# Altium schematic symbol library LimeMicroAltiumLib.SchLib: 659 symbols (part 16 of 22)
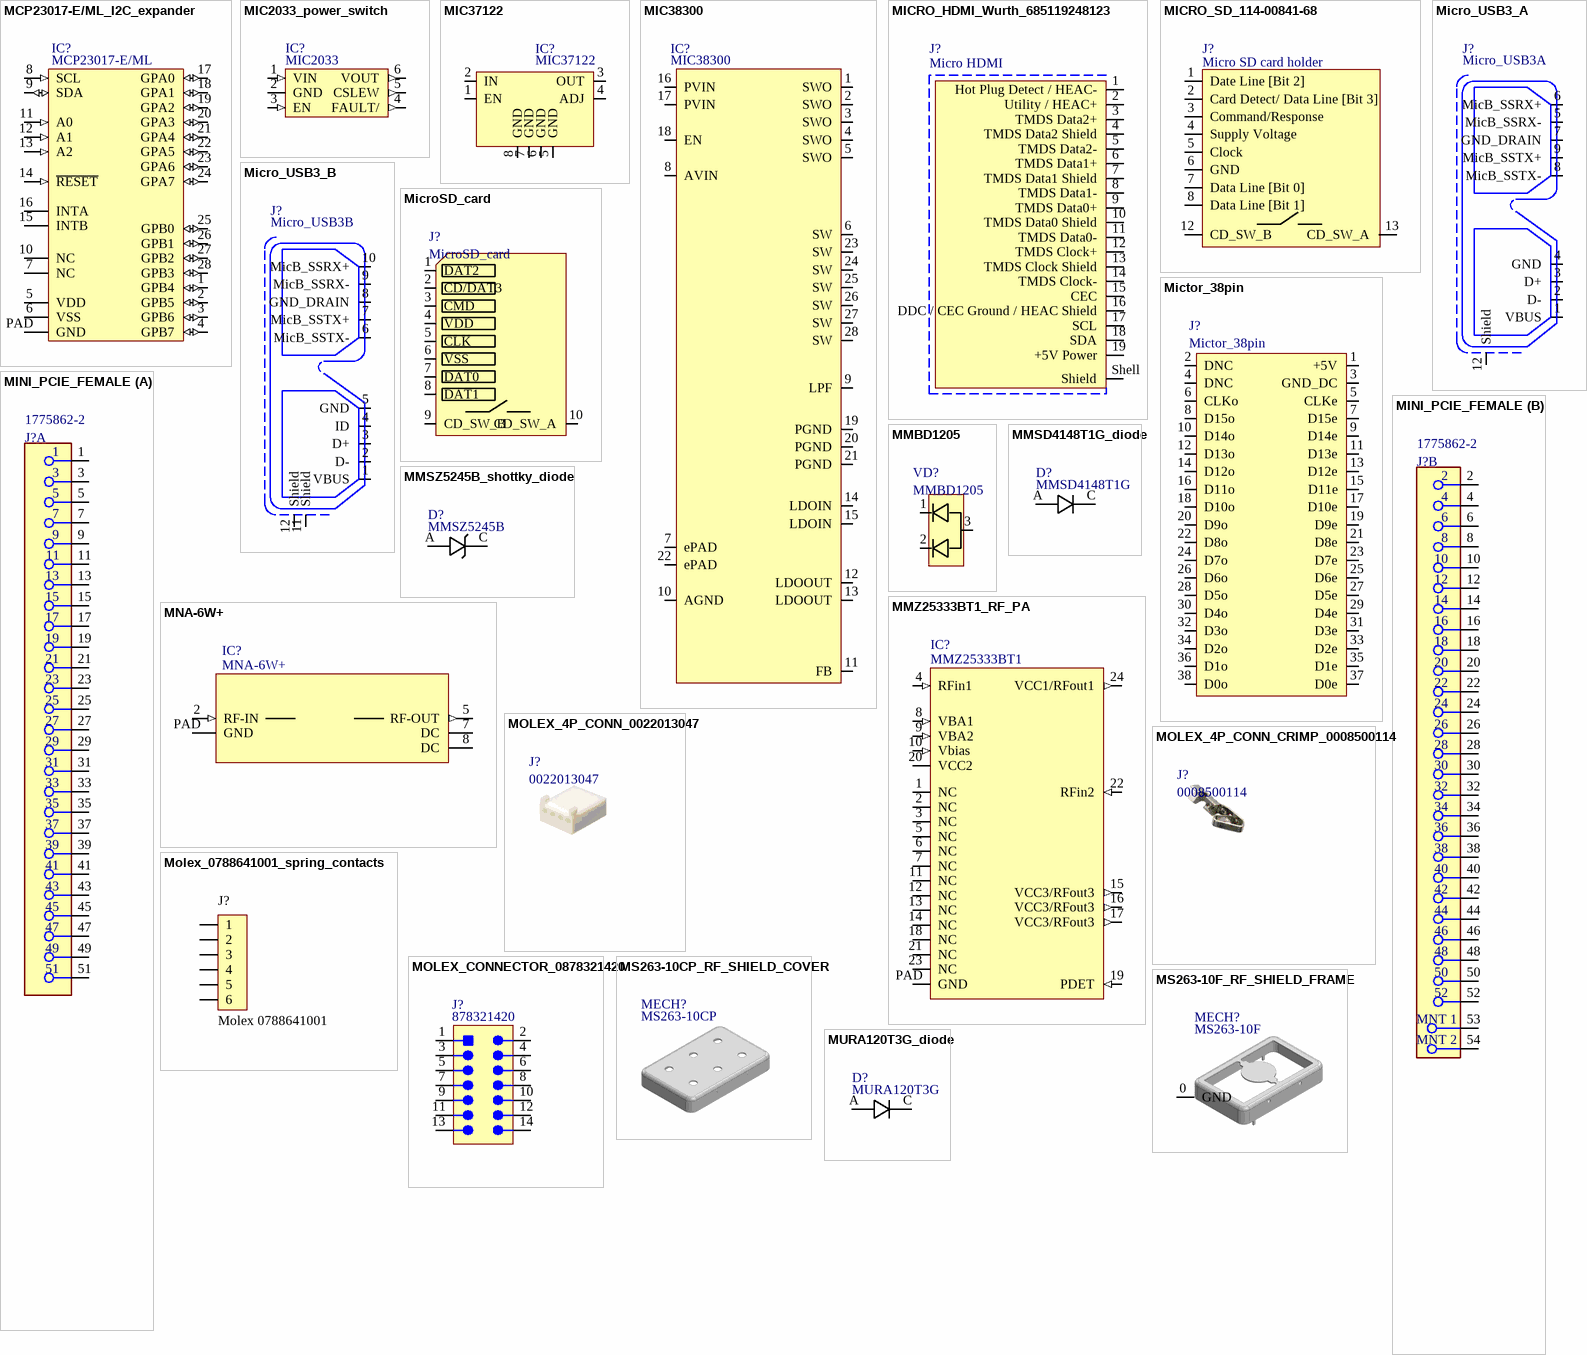
[diagram p93: symbols MCP23017-E/ML_I2C_expander to MURA120T3G_diode]

## MCP23017-E/ML_I2C_expander
designator IC?, comment MCP23017-E/ML
Part Description: I/O Expander 16 I²C 1.7 MHz 28-QFN (6x6); Manufacturer: Microchip; ComponentLink1URL: https://datasheet.ciiva.com/1496/12179-1496011.pdf?src-supplier=Element14; ComponentLink1Description: https://datasheet.ciiva.com/1496/12179-1496011.pdf?src-supplier=Element14; ComponentLink2URL: https://datasheet.ciiva.com/1780/21952b-1780121.pdf?src-supplier=Digi-Key; ComponentLink2Description: https://datasheet.ciiva.com/1780/21952b-1780121.pdf?src-supplier=Digi-Key; ComponentLink3URL: https://datasheet.ciiva.com/3149/21952b-3149158.pdf?src-supplier=Avnet; ComponentLink3Description: https://datasheet.ciiva.com/3149/21952b-3149158.pdf?src-supplier=Avnet; ComponentLink4URL: https://datasheet.ciiva.com/16222/filehandler-aspxddocname-en023709-16222331.pdf?src-supplier=Future+Electronics; ComponentLink4Description: https://datasheet.ciiva.com/16222/filehandler-aspxddocname-en023709-16222331.pdf?src-supplier=Future+Electronics; Supplier 1: Digi-Key; Supplier Part Number 1: MCP23017-E/ML-ND; Manufacturer Part Number 1: MCP23017-E/ML; Stock 1: 3965; Pricing 1: 1=1,9, 25=1,59, 100=1,44 (USD); RoHS: Yes
footprint MCP23017-E/ML_QFN28
pins: 1 GPB4 (io), 2 GPB5 (io), 3 GPB6 (io), 4 GPB7 (io), 5 VDD (power), 6 VSS (power), 7 NC, 8 SCL (in), 9 SDA (io), 10 NC, 11 A0 (in), 12 A1 (in), 13 A2 (in), 14 ~{RESET} (in), 15 INTB (oc), 16 INTA (oc), 17 GPA0 (io), 18 GPA1 (io), 19 GPA2 (io), 20 GPA3 (io), 21 GPA4 (io), 22 GPA5 (io), 23 GPA6 (io), 24 GPA7 (io), 25 GPB0 (io), 26 GPB1 (io), 27 GPB2 (io), 28 GPB3 (io), PAD GND

## MIC2033_power_switch
designator IC?, comment MIC2033
Manufacturer: Microchip; Manufacturer Part Number 1: MIC2033-05AYM6-TR; Part Description: Power Switch ICs - Power Distribution 500mA High-Side, Power Distribution Switch; Number of Outputs: 1; Interface: On/Off; Max Output Current: 500mA; Fault Protection: Over Temperature; Output Configuration: High Side; Supplier 1: Digi-Key; Supplier Part Number 1: 576-4143-1-ND; Stock 1: 1966; Pricing 1: 1=0,80000, 25=0,65720, 100=0,61500 (USD); RoHS: Yes; Mount: Surface Mount; Case/Package: SOT-23-6; Number of Pins: 6; Min Operating Temperature: -40°C; Max Operating Temperature: 125°C; Packaging: Tape and Reel; Package Quantity: 3000; Series: -; Number of Switches: 1; RoHS Compliant: Yes; ComponentLink1URL: http://www.mouser.com/ds/2/268/mic2033-b-1076865.pdf?src-supplier=Mouser; ComponentLink1Description: http://www.mouser.com/ds/2/268/mic2033-b-1076865.pdf?src-supplier=Mouser; ComponentLink2URL: http://components.arrow.com/part/dataview/56727820S413982N1374?src-supplier=Arrow+Electronics; ComponentLink2Description: http://components.arrow.com/part/dataview/56727820S413982N1374?src-supplier=Arrow+Electronics; ComponentLink3URL: http://www.microchip.com/mymicrochip/filehandler.aspx?ddocname=en579457&src-supplier=Digi-Key; ComponentLink3Description: http://www.microchip.com/mymicrochip/filehandler.aspx?ddocname=en579457&src-supplier=Digi-Key
footprint SOT23-6
pins: 1 VIN (in), 2 GND, 3 EN (in), 4 FAULT/ (out), 5 CSLEW (out), 6 VOUT (out)

## MIC37122
designator IC?
Voltage - Input: 2.375 V ~ 5.5 V; Supplier 1: Digi-Key; Supplier: Digi-Key; Package / Case: 8-SOIC (0.154", 3.90mm Width); Supplier Part Number: 576-4334-2-ND
footprint MIC37122YM TR_SO8 (SOIC, 8-Leads, Body 4,90x3,90mm, Pitch 1,27mm, IPC Medium Density)
pins: 1 EN, 2 IN, 3 OUT, 4 ADJ, 5 GND, 6 GND, 7 GND, 8 GND

## MIC38300
designator IC?
Manufacturer: Microchip Technology; Manufacturer Part Number 1: MIC38300HYHL-TR; Current - Output (Max): 3A; Voltage - Input (Min): 3V; Voltage - Input (Max): 5.5V; Voltage - Output 1: 1 ~ 5 V; Number of Outputs: 1; Supplier 1: Digi-Key; Features: OCP, OVP, UVLO; Voltage - Output 2: -; Applications: ITE (Commercial); Package / Case: 28-PowerVQFN Variant, 28-MLF®; Mounting Type: Surface Mount; RoHS: RoHS Compliant; Size / Dimension: 0.236" L x 0.158" W (6.00mm x 4.00mm); Voltage - Isolation: -; Power (Watts) - Manufacture Series: -; Type: Non-Isolated PoL Module; Efficiency: -; Voltage - Output 3: -; Packaging: Cut Tape (CT); Operating Temperature: -40°C ~ 125°C; Power (Watts) - Max: -; Category: Power Supplies - Board Mount; Supplier Part Number 1: 576-2960-1-ND
pins: 1 SWO, 2 SWO, 3 SWO, 4 SWO, 5 SWO, 6 SW, 7 ePAD, 8 AVIN, 9 LPF, 10 AGND, 11 FB, 12 LDOOUT, 13 LDOOUT, 14 LDOIN, 15 LDOIN, 16 PVIN, 17 PVIN, 18 EN, 19 PGND, 20 PGND, 21 PGND, 22 ePAD, 23 SW, 24 SW, 25 SW, 26 SW, 27 SW, 28 SW

## MICRO_HDMI_Wurth_685119248123
designator J?, comment Micro HDMI
Also compatible with Molex 0467651301 and Amphenol 10118242-001RLF; Manufacturer: Wurth Electronics; Manufacturer Part Number 1: 685119248123; Part Description: HDMI - Micro - Receptacle Connector 19 Position Surface Mount, Right Angle; Through Hole; Body Material: Brass; Number of Contacts: 19; Gender: Receptacle; Supplier 1: RSComponents; Supplier Part Number 1: 1621823; Stock 1: 1; Pricing 1: 1000=1,80500, 5000=1,73500, 10000=1,68900, 15000=1,64400, 20000=1,60100 (USD); RoHS: Yes; Mount: Surface Mount,Horizontal; Contact Plating: Gold; Package Quantity: 1000; Packaging: Tape and Reel; Connector Type: HDMI; Features: Shielded; REACH SVHC: Unknown; RoHS Compliant: Yes; ComponentLink1URL: https://datasheet.ciiva.com/29660/685119248123-29660258.pdf?src-supplier=Digi-Key; ComponentLink1Description: https://datasheet.ciiva.com/29660/685119248123-29660258.pdf?src-supplier=Digi-Key
footprint MICRO_HDMI_Wurth_685119248123 (Footprint not found)
pins: 1 Hot Plug Detect / HEAC-, 2 Utility / HEAC+, 3 TMDS Data2+, 4 TMDS Data2 Shield, 5 TMDS Data2-, 6 TMDS Data1+, 7 TMDS Data1 Shield, 8 TMDS Data1-, 9 TMDS Data0+, 10 TMDS Data0 Shield, 11 TMDS Data0-, 12 TMDS Clock+, 13 TMDS Clock Shield, 14 TMDS Clock-, 15 CEC, 16 DDC / CEC Ground / HEAC Shield, 17 SCL, 18 SDA, 19 +5V Power, Shell Shield

## MICRO_SD_114-00841-68
designator J?, comment Micro SD card holder
Manufacturer: Amphenol Commercial Products; Manufacturer Part Number: 114-00841-68; Part Description: 10 (8 + 2) Position Card Connector Secure Digital - microSD™ Surface Mount, Right Angle Gold; Card Type: Secure Digital - microSD™; Number of Positions: 10 (8 + 2); Connector Type: Connector; Insertion, Removal Method: Push In, Pull Out; Supplier 1: Digi-Key; RoHS: RoHS Compliant; Category: Connectors, Interconnects; Stock 1: 5866; Pricing 1: 1=1.5, 10=1.358, 25=1.2752, 50=1.2196, 100=1.1642, 250=1.05336, 500=0.9702 (USD); Packaging: Cut Tape (CT); Part Status: Active; Ejector Side: -; Mounting Type: Surface Mount, Right Angle; Features: Switch; Height Above Board: 0.061" (1.55mm); Mounting Feature: Normal, Standard - Top; Contact Finish: Gold; Contact Finish Thickness: 15.0µin (0.38µm); ComponentLink1URL: https://www.amphenolcanada.com/ProductSearch/drawings/AC/1140084168.pdf; ComponentLink1Description: https://www.amphenolcanada.com/ProductSearch/drawings/AC/1140084168.pdf; Supplier Part Number 1: 114-00841-68-1-ND
footprint MICRO_SD_CARD_114-00841-68
pins: 1 Date Line [Bit 2], 2 Card Detect/ Data Line [Bit 3], 3 Command/Response, 4 Supply Voltage, 5 Clock, 6 GND, 7 Data Line [Bit 0], 8 Data Line [Bit 1], 12 CD_SW_B, 13 CD_SW_A

## Micro_USB3_A
designator J?, comment Micro_USB3A
footprint microUSB3A_SM
pins: 1 VBUS, 2 D-, 3 D+, 4 GND, 5 MicB_SSRX-, 6 MicB_SSRX+, 7 GND_DRAIN, 8 MicB_SSTX-, 9 MicB_SSTX+, 12 Shield

## Micro_USB3_B
designator J?, comment Micro_USB3B
Specifications: USB 3.0, Super Speed; Connector Type: USB - micro B; Supplier 1: Digi-Key; Mounting Type: Surface Mount, Right Angle, Horizontal; Category: Connectors, Interconnects; Supplier: Digi-Key; Supplier Part Number: GSB343K33HRCT-ND
pins: 1 VBUS, 2 D-, 3 D+, 4 ID, 5 GND, 6 MicB_SSTX-, 7 MicB_SSTX+, 8 GND_DRAIN, 9 MicB_SSRX-, 10 MicB_SSRX+, 11 Shield, 12 Shield

## MicroSD_card
designator J?
Supplier 1: Digi-Key; Supplier Part Number 1: HR1964CT-ND
pins: 1 DAT2, 2 CD/DAT3, 3 CMD, 4 VDD, 5 CLK, 6 VSS, 7 DAT0, 8 DAT1, 9 CD_SW_B, 10 CD_SW_A

## Mictor_38pin
designator J?
Manufacturer: TE CONNECTIVITY / AMP; Manufacturer Part Number: 2-5767004-2; Contact Termination Type: Surface Mount; Pitch Spacing: 0.64; No. of Contacts: 38; Gender: Receptacle; No. of Rows: 2; Row Pitch: 7.06; Supplier 1: Newark; Series: MICTOR; Contact Plating: Gold; Supplier Part Number 1: 24K3655
footprint AMP_MICTOR38
pins: 1 +5V, 2 DNC, 3 GND_DC, 4 DNC, 5 CLKe, 6 CLKo, 7 D15e, 8 D15o, 9 D14e, 10 D14o, 11 D13e, 12 D13o, 13 D12e, 14 D12o, 15 D11e, 16 D11o, 17 D10e, 18 D10o, 19 D9e, 20 D9o, 21 D8e, 22 D8o, 23 D7e, 24 D7o, 25 D6e, 26 D6o, 27 D5e, 28 D5o, 29 D4e, 30 D4o, 31 D3e, 32 D3o, 33 D2e, 34 D2o, 35 D1e, 36 D1o, 37 D0e, 38 D0o

## MINI_PCIE_FEMALE
designator J?, comment 1775862-2
CONN PCI EXP MINI FEMALE 52POS; Part Description: 52 Position Female Connector PCI Express Mini Card Gold 0.031" (0.80mm) Black; Manufacturer: TE Connectivity AMP; Manufacturer Part Number 1: 2041262-1; ComponentLink1URL: https://www.mouser.com/ds/2/418/NG_DS_8-1773459-7_EXPRESS_MINI_CARD_QRG_0816-907003.pdf?src-supplier=Mouser; ComponentLink1Description: https://www.mouser.com/ds/2/418/NG_DS_8-1773459-7_EXPRESS_MINI_CARD_QRG_0816-907003.pdf?src-supplier=Mouser; ComponentLink2URL: http://www.farnell.com/datasheets/2645681.pdf?src-supplier=Newark; ComponentLink2Description: http://www.farnell.com/datasheets/2645681.pdf?src-supplier=Newark; ComponentLink3URL: https://www.te.com/commerce/DocumentDelivery/DDEController?Action=srchrtrv&DocNm=108-99102&DocType=SS&DocLang=EN&src-supplier=Digi-Key; ComponentLink3Description: https://www.te.com/commerce/DocumentDelivery/DDEController?Action=srchrtrv&DocNm=108-99102&DocType=SS&DocLang=EN&src-supplier=Digi-Key; ComponentLink4URL: https://www.te.com/commerce/DocumentDelivery/DDEController?Action=srchrtrv&amp;DocNm=108-99102&amp;DocType=SS&amp;DocLang=EN&src-supplier=Digi-Key; ComponentLink4Description: https://www.te.com/commerce/DocumentDelivery/DDEController?Action=srchrtrv&amp;DocNm=108-99102&amp;DocType=SS&amp;DocLang=EN&src-supplier=Digi-Key; ComponentLink5URL: http://www.te.com/commerce/DocumentDelivery/DDEController?Action=showdoc&DocId=Customer+Drawing%7F2041262%7FC%7Fpdf%7FEnglish%7FENG_CD_2041262_C.pdf&src-supplier=Avnet; ComponentLink5Description: http://www.te.com/commerce/DocumentDelivery/DDEController?Action=showdoc&DocId=Customer+Drawing%7F2041262%7FC%7Fpdf%7FEnglish%7FENG_CD_2041262_C.pdf&src-supplier=Avnet; ComponentLink6URL: http://www.te.com/commerce/DocumentDelivery/DDEController?Action=srchrtrv&DocNm=2041262&DocType=Customer+Drawing&DocLang=English&src-supplier=Digi-Key; ComponentLink6Description: http://www.te.com/commerce/DocumentDelivery/DDEController?Action=srchrtrv&DocNm=2041262&DocType=Customer+Drawing&DocLang=English&src-supplier=Digi-Key; Supplier 1: Digi-Key; Supplier Part Number 1: A125147CT-ND; Stock 1: 45333; Pricing 1: 1=1,25000, 10=1,05300, 25=1,00960, 50=0,98820, 100=0,94520 (USD); RoHS: Yes
footprint MiniPCIe_connector
part A pins: 1, 3, 5, 7, 9, 11, 13, 15, 17, 19, 21, 23, 25, 27, 29, 31, 33, 35, 37, 39, 41, 43, 45, 47, 49, 51
part B pins: 2, 4, 6, 8, 10, 12, 14, 16, 18, 20, 22, 24, 26, 28, 30, 32, 34, 36, 38, 40, 42, 44, 46, 48, 50, 52, 53 MNT 1, 54 MNT 2

## MMBD1205
designator VD?
Reverse Recovery Time (trr): 4ns; Diode Configuration: 1 Pair Common Anode; Voltage - DC Reverse (Vr) (Max): 100V; Current - Average Rectified (Io) (per Diode): 200mA; Current - Reverse Leakage @ Vr: 50nA @ 50V; Voltage - Forward (Vf) (Max) @ If: 1V @ 200mA; Supplier 1: Digi-Key; Category: Discrete Semiconductor Products; Supplier Device Package: SOT-23-3 (TO-236); Package / Case: TO-236-3, SC-59, SOT-23-3; Supplier Part Number 1: MMBD1205CT-ND
footprint SOT23-3_v2 (SOT23, 3 pin)
pins: 1, 2, 3

## MMSD4148T1G_diode
designator D?, comment MMSD4148T1G
Part Description: Diode Standard 100V 200mA (DC) Surface Mount SOD-123; Manufacturer: ON Semiconductor; Manufacturer Part Number 1: MMSD4148-T1G; Forward Current: 200mA; Reverse Recovery Time: 4ns; Max Repetitive Reverse Voltage (Vrrm): 100V; Peak Non-Repetitive Surge Current: 2A; Element Configuration: Single; Forward Voltage: 1V; Peak Reverse Current: 5uA; Power Dissipation: 425mW; Polarity: Standard; Current Rating: 200A; Capacitance: 4pF; ComponentLink1URL: http://www.mouser.com/ds/2/427/mmsz5225-102133.pdf; ComponentLink1Description: http://www.mouser.com/ds/2/427/mmsz5225-102133.pdf; Supplier 1: Digi-Key; RoHS: Yes; Stock 1: 767963; Pricing 1: 1 = 0,21000, 10 = 0,19200, 100 = 0,10450, 500 = 0,06432, 1000 = 0,04386 (USD); Case/Package: SOD-123-2; Number of Pins: 2; Contact Plating: Matte,Tin; Min Operating Temperature: -55°C; Max Operating Temperature: 150°C; Recovery Time: 4ns; Max Surge Current: 2A; Package Quantity: 1; Packaging: Tape and Reel; Average Rectified Current: 200mA; Max Reverse Voltage (DC): 100V; Max Reverse Leakage Current: 5uA; Max Forward Surge Current (Ifsm): 2A; Voltage Rating (DC): 100V; Output Current: 200mA; Length: 2.69mm; Height: 1.12mm; Width: 1.6mm; Radiation Hardening: No; Lead Free: Lead Free; Halogen Free: Halogen Free; REACH SVHC: No SVHC; ComponentLink2URL: http://www.onsemi.com/pub/Collateral/MMSD4148T1-D.PDF; ComponentLink2Description: http://www.onsemi.com/pub/Collateral/MMSD4148T1-D.PDF; ComponentLink3URL: http://www.farnell.com/datasheets/1707241.pdf; ComponentLink3Description: http://www.farnell.com/datasheets/1707241.pdf; ComponentLink4URL: https://www.verical.com/server-webapp/html/getDatasheet?partID=78734; ComponentLink4Description: https://www.verical.com/server-webapp/html/getDatasheet?partID=78734; Supplier Part Number 1: MMSD4148T1GOSCT-ND
footprint MMSD4148T1G_diode_SOD123
pins: A, C

## MMSZ5245B_shottky_diode
designator D?, comment MMSZ5245B
Manufacturer: Vishay Semiconductors; Manufacturer Part Number 1: MMSZ5245B-E3-18; Part Description: Zener Diode 15V 500mW ±5% Surface Mount SOD-123; Zener Voltage: 15V; Max Power Dissipation: 500mW; Impedance: 16R; Voltage Tolerance: 5%; Peak Reverse Current: 100nA; Element Configuration: Single; Supplier 1: Digi-Key; RoHS: Yes; Stock 1: 29874; Pricing 1: 1 = 0,28000, 10 = 0,23300, 25 = 0,19480, 100 = 0,12330, 250 = 0,09516, 500 = 0,08112, 1000 = 0,05516, 2500 = 0,04975, 5000 = 0,04326 (USD); Mount: Surface Mount; Case/Package: SOD-123-2; Weight: 0.000363oz; Min Operating Temperature: -55°C; Max Operating Temperature: 150°C; Packaging: Tape and Reel; Package Quantity: 10000; Tolerance: 5%; ComponentLink1URL: http://www.mouser.com/ds/2/427/mmsz5225-102133.pdf; ComponentLink1Description: http://www.mouser.com/ds/2/427/mmsz5225-102133.pdf; Supplier Part Number 1: MMSZ5245B-E3-18GICT-ND
footprint MMSZ5245B_shottky_diode_SOD123
pins: A, C

## MMZ25333BT1_RF_PA
designator IC?, comment MMZ25333BT1
Part Description: RF Amplifier IC Cellular 1.5GHz ~ 2.7GHz 24-QFN (4x4); Manufacturer: NXP Freescale; Frequency: 2.7GHz; P1dB: 32dBm; Gain: 43dB; Operating Supply Current: 265mA; Test Frequency: 2.6GHz; Supplier 1: Digi-Key; Supplier Part Number 1: MMZ25333BT1CT-ND; Manufacturer Part Number 1: MMZ25333BT1; Stock 1: 298; Pricing 1: 1=10,02000 (USD); RoHS: Yes; Case/Package: QFN; Packaging: Tape and Reel; RoHS Compliant: Yes; ComponentLink1URL: http://www.mouser.com/ds/2/302/MMZ25333B-783850.pdf?src-supplier=Mouser; ComponentLink1Description: http://www.mouser.com/ds/2/302/MMZ25333B-783850.pdf?src-supplier=Mouser
footprint MMZ25333BT1_RF_PA_24QFN
pins: 1 NC, 2 NC, 3 NC, 4 RFin1 (in), 5 NC, 6 NC, 7 NC, 8 VBA1 (in), 9 VBA2 (in), 10 Vbias (in), 11 NC, 12 NC, 13 NC, 14 NC, 15 VCC3/RFout3 (out), 16 VCC3/RFout3 (out), 17 VCC3/RFout3 (out), 18 NC, 19 PDET (in), 20 VCC2 (power), 21 NC, 22 RFin2 (in), 23 NC, 24 VCC1/RFout1 (out), PAD GND

## MNA-6W+
designator IC?
Monolithic Amplifier 50Ω 0.5 to 5.5 GHz; Manufacturer: Mini-Circuits; Supplier Part Number 1: MNA-6W+; Supplier 1: Mini-Circuits; Part Description: Monolithic Amplifier 50Ω 0.5 to 5.5 GHz; Manufacturer Part Number 1: MNA-6W+
footprint MNA-6W+_DQ849 (Quad Flat No Lead, Plastic; 16 Terminals; Body 3 x 3 mm; Pitch 0.5 mm)
pins: 1 N/C hidden, 2 RF-IN (in), 3 N/C hidden, 4 N/C hidden, 5 RF-OUT (out), 6 N/C hidden, 7 DC (power), 8 DC (power), PAD GND

## MOLEX_4P_CONN_0022013047
designator J?, comment 0022013047  (mechanical)
Manufacturer: Molex; Part Description: 4 Position Rectangular Housing Connector Receptacle White 0.100" (2.54mm); Gender: Female; Connector Type: Socket; Number of Positions: 4; Voltage Rating: 250V; Max Current Rating: 4A; Pitch: 2.54mm; Approvals: UL; Glow Wire Compliant: Non-compliant; Supplier 1: Digi-Key; Manufacturer Part Number 1: 22-01-3047; Stock 1: 63562; Pricing 1: 1=0,20000, 10=0,18500, 25=0,15760, 50=0,13780, 100=0,12790, 250=0,11316, 500=0,10824, 1000=0,08856, 2500=0,08118 (USD); RoHS: Yes; Mount: Cable; Contact Material: Bronze; Color: White; Housing Color: White; Housing Material: Nylon; Min Operating Temperature: 0°C; Max Operating Temperature: 75°C; Package Quantity: 5000; Packaging: Bulk; Termination: Crimp; Orientation: Straight; Number of Rows: 1; Number of Contacts: 4; Number of Circuits: 4; Length: 10.72mm; Height: 6.62mm; Depth: 12.7mm; Width: 6.62mm; Radiation Hardening: No; Lead Free: Lead Free; REACH SVHC: Unknown; Halogen Free: Low Halogen; Flammability Rating: UL94 V-0; ComponentLink1URL: https://datasheet.ciiva.com/11740/0900766b812c7f18-11740520.pdf?src-supplier=RSComponents; ComponentLink1Description: https://datasheet.ciiva.com/11740/0900766b812c7f18-11740520.pdf?src-supplier=RSComponents; ComponentLink2URL: https://datasheet.ciiva.com/19472/1965550-19472976.pdf?src-supplier=Jameco; ComponentLink2Description: https://datasheet.ciiva.com/19472/1965550-19472976.pdf?src-supplier=Jameco; ComponentLink3URL: https://datasheet.ciiva.com/19454/234819-19454258.pdf?src-supplier=Jameco; ComponentLink3Description: https://datasheet.ciiva.com/19454/234819-19454258.pdf?src-supplier=Jameco; ComponentLink4URL: https://datasheet.ciiva.com/30154/0022013047-crimp-housings-30154787.pdf?src-supplier=Onlinecomponents.com; ComponentLink4Description: https://datasheet.ciiva.com/30154/0022013047-crimp-housings-30154787.pdf?src-supplier=Onlinecomponents.com; ComponentLink5URL: https://datasheet.ciiva.com/15217/getdatasheetpartid-175308-15217513.pdf?src-supplier=Verical; ComponentLink5Description: https://datasheet.ciiva.com/15217/getdatasheetpartid-175308-15217513.pdf?src-supplier=Verical; ComponentLink6URL: https://datasheet.ciiva.com/5153/0022013047-crimp-housings-158509-5153519.pdf?src-supplier=Mouser; ComponentLink6Description: https://datasheet.ciiva.com/5153/0022013047-crimp-housings-158509-5153519.pdf?src-supplier=Mouser; ComponentLink7URL: https://datasheet.ciiva.com/16660/0022013047-crimp-housings-16660631.pdf?src-supplier=Avnet+Europe; ComponentLink7Description: https://datasheet.ciiva.com/16660/0022013047-crimp-housings-16660631.pdf?src-supplier=Avnet+Europe; ComponentLink8URL: https://datasheet.ciiva.com/16744/0022013047-crimp-housings-16744236.pdf?src-supplier=Avnet+Europe; ComponentLink8Description: https://datasheet.ciiva.com/16744/0022013047-crimp-housings-16744236.pdf?src-supplier=Avnet+Europe; ComponentLink9URL: https://datasheet.ciiva.com/16468/0022013047-crimp-housings-16468669.pdf?src-supplier=Avnet+Asia; ComponentLink9Description: https://datasheet.ciiva.com/16468/0022013047-crimp-housings-16468669.pdf?src-supplier=Avnet+Asia; Supplier Part Number 1: WM2002-ND

## MOLEX_4P_CONN_CRIMP_0008500114
designator J?, comment 0008500114  (mechanical)
Part Description: Non-Gendered Contact Tin 22-30 AWG Crimp; Manufacturer: Molex; Current Rating: 3A; Voltage Rating: 250V; Connector Type: Socket; Gender: Female; Max Current Rating: 9A; Contact Resistance: 20mR; Number of Contacts: 1; Shielding: Unshielded; Wire Gauge (Max): 22AWG; Wire Gauge (Min): 30AWG; ComponentLink1URL: https://datasheet.ciiva.com/11740/0900766b812c7f18-11740520.pdf?src-supplier=RSComponents; ComponentLink1Description: https://datasheet.ciiva.com/11740/0900766b812c7f18-11740520.pdf?src-supplier=RSComponents; ComponentLink2URL: https://datasheet.ciiva.com/19472/1965550-19472976.pdf?src-supplier=Jameco; ComponentLink2Description: https://datasheet.ciiva.com/19472/1965550-19472976.pdf?src-supplier=Jameco; ComponentLink3URL: https://datasheet.ciiva.com/19454/234819-19454258.pdf?src-supplier=Jameco; ComponentLink3Description: https://datasheet.ciiva.com/19454/234819-19454258.pdf?src-supplier=Jameco; ComponentLink4URL: https://datasheet.ciiva.com/30154/0022013047-crimp-housings-30154787.pdf?src-supplier=Onlinecomponents.com; ComponentLink4Description: https://datasheet.ciiva.com/30154/0022013047-crimp-housings-30154787.pdf?src-supplier=Onlinecomponents.com; ComponentLink5URL: https://datasheet.ciiva.com/15217/getdatasheetpartid-175308-15217513.pdf?src-supplier=Verical; ComponentLink5Description: https://datasheet.ciiva.com/15217/getdatasheetpartid-175308-15217513.pdf?src-supplier=Verical; ComponentLink6URL: https://datasheet.ciiva.com/5153/0022013047-crimp-housings-158509-5153519.pdf?src-supplier=Mouser; ComponentLink6Description: https://datasheet.ciiva.com/5153/0022013047-crimp-housings-158509-5153519.pdf?src-supplier=Mouser; ComponentLink7URL: https://datasheet.ciiva.com/16660/0022013047-crimp-housings-16660631.pdf?src-supplier=Avnet+Europe; ComponentLink7Description: https://datasheet.ciiva.com/16660/0022013047-crimp-housings-16660631.pdf?src-supplier=Avnet+Europe; ComponentLink8URL: https://datasheet.ciiva.com/16744/0022013047-crimp-housings-16744236.pdf?src-supplier=Avnet+Europe; ComponentLink8Description: https://datasheet.ciiva.com/16744/0022013047-crimp-housings-16744236.pdf?src-supplier=Avnet+Europe; ComponentLink9URL: https://datasheet.ciiva.com/16468/0022013047-crimp-housings-16468669.pdf?src-supplier=Avnet+Asia; ComponentLink9Description: https://datasheet.ciiva.com/16468/0022013047-crimp-housings-16468669.pdf?src-supplier=Avnet+Asia; Supplier 1: Digi-Key; Supplier Part Number 1: WM1114-ND; Manufacturer Part Number 1: 08-50-0114; Stock 1: 561832; Pricing 1: 1=0,17000, 10=0,16300, 25=0,12120, 50=0,10380, 100=0,10030, 250=0,08652, 500=0,08304, 1000=0,07266, 2500=0,06574 (USD); RoHS: Yes; Mount: Cable; Contact Material: Brass; Contact Plating: Tin; Min Operating Temperature: -40°C; Max Operating Temperature: 105°C; Package Quantity: 2000; Contact Gender: Female; Termination: Crimp; Packaging: Bulk; Orientation: Straight; Max Voltage Rating (AC): 250V; Length: 9.7mm; Height: 3.68mm; Wire/Cable Gauge: 30AWG; Depth: 2.1mm; Radiation Hardening: No; Lead Free: Lead Free; REACH SVHC: Unknown; ComponentLink10URL: https://datasheet.ciiva.com/30066/271690008500114-crimp-terminals-30066772.pdf?src-supplier=Onlinecomponents.com; ComponentLink10Description: https://datasheet.ciiva.com/30066/271690008500114-crimp-terminals-30066772.pdf?src-supplier=Onlinecomponents.com; ComponentLink11URL: https://datasheet.ciiva.com/5156/0008500114-crimp-terminals-227200-5156842.pdf?src-supplier=Mouser; ComponentLink11Description: https://datasheet.ciiva.com/5156/0008500114-crimp-terminals-227200-5156842.pdf?src-supplier=Mouser; ComponentLink12URL: https://datasheet.ciiva.com/19454/234923-19454299.pdf?src-supplier=Jameco; ComponentLink12Description: https://datasheet.ciiva.com/19454/234923-19454299.pdf?src-supplier=Jameco; ComponentLink13URL: https://datasheet.ciiva.com/11723/0900766b8131f4fe-11723637.pdf?src-supplier=RSComponents; ComponentLink13Description: https://datasheet.ciiva.com/11723/0900766b8131f4fe-11723637.pdf?src-supplier=RSComponents; ComponentLink14URL: https://datasheet.ciiva.com/16132/1527990008500114-crimp-terminals-16132422.pdf?src-supplier=Onlinecomponents.com; ComponentLink14Description: https://datasheet.ciiva.com/16132/1527990008500114-crimp-terminals-16132422.pdf?src-supplier=Onlinecomponents.com

## Molex_0788641001_spring_contacts
designator J?, comment Molex 0788641001
Header, 6-pin; Part Description: 6 Position Spring Battery Contact Connector Surface Mount; Manufacturer Part Number 1: 78864-1001; Voltage Rating: 10V; Number of Contacts: 6; Glow Wire Compliant: Non-compliant; Supplier 1: Digi-Key; Supplier Part Number 1: WM11204CT-ND; Manufacturer: Molex; Stock 1: 133097; Pricing 1: 1=0,45000, 10=0,36500, 100=0,26730, 1000=0,21263 (USD); RoHS: Yes; Contact Material: Copper Alloy; Orientation: Vertical; Voltage Rating (DC): 10V; Number of Circuits: 6; Halogen Free: Low Halogen; ComponentLink1URL: http://www.farnell.com/datasheets/2216617.pdf?src-supplier=Farnell; ComponentLink1Description: http://www.farnell.com/datasheets/2216617.pdf?src-supplier=Farnell; ComponentLink2URL: http://www.farnell.com/datasheets/2216617.pdf?src-supplier=Newark; ComponentLink2Description: http://www.farnell.com/datasheets/2216617.pdf?src-supplier=Newark; ComponentLink3URL: http://www.farnell.com/datasheets/1862322.pdf?src-supplier=Element14; ComponentLink3Description: http://www.farnell.com/datasheets/1862322.pdf?src-supplier=Element14
footprint Molex_0788641001_spring_contacts
pins: 1, 2, 3, 4, 5, 6

## MOLEX_CONNECTOR_0878321420
designator J?, comment 878321420
Male Header, Pitch 2 mm, 2 x 7 Position, Height 7.6 mm, -55 to 105 degC, RoHS; Part Description: Connector Header Surface Mount 14 position 0.079" (2.00mm); Manufacturer: Molex; Manufacturer Part Number 1: 87832-1420; Number of Positions: 14; Current Rating: 2A; Insulation Resistance: 1GR; Voltage Rating: 125V; Shrouded: Yes (With); Pitch: 2mm; Glow Wire Compliant: Non-compliant; Supplier 1: Digi-Key; Stock 1: 62479; Pricing 1: 1 = 1,83000, 10 = 1,66000, 100 = 1,42280, 500 = 1,18562, 3200 = 0,94850, 6400 = 0,90108 (USD); RoHS: Yes; Mount: Surface Mount; Color: Black; Housing Color: Black; Housing Material: Thermoplastic; Contact Plating: Gold; Contact Material: Brass; Min Operating Temperature: -55°C; Max Operating Temperature: 105°C; Number of Rows: 2; Packaging: Rail/Tube; Termination: SMD/SMT; Number of Contacts: 14; Orientation: Vertical; Gender: Male; Package Quantity: 3200; Number of Circuits: 14; Voltage Rating (DC): 125V; Radiation Hardening: No; REACH SVHC: No SVHC; Lead Free: Lead Free; Flammability Rating: UL94 V-0; ComponentLink1URL: https://datasheet.ciiva.com/5151/0878321420-pcb-headers-176595-5151942.pdf?src-supplier=Mouser; ComponentLink1Description: https://datasheet.ciiva.com/5151/0878321420-pcb-headers-176595-5151942.pdf?src-supplier=Mouser; ComponentLink2URL: https://datasheet.ciiva.com/30118/0878321420-pcb-headers-30118102.pdf?src-supplier=Onlinecomponents.com; ComponentLink2Description: https://datasheet.ciiva.com/30118/0878321420-pcb-headers-30118102.pdf?src-supplier=Onlinecomponents.com; ComponentLink3URL: https://datasheet.ciiva.com/11746/0900766b80d68d6a-11746394.pdf?src-supplier=RSComponents; ComponentLink3Description: https://datasheet.ciiva.com/11746/0900766b80d68d6a-11746394.pdf?src-supplier=RSComponents; ComponentLink4URL: https://datasheet.ciiva.com/7814/1625645-7814923.pdf?src-supplier=Element14; ComponentLink4Description: https://datasheet.ciiva.com/7814/1625645-7814923.pdf?src-supplier=Element14; ComponentLink5URL: https://datasheet.ciiva.com/27055/1934622-27055085.pdf?src-supplier=Jameco; ComponentLink5Description: https://datasheet.ciiva.com/27055/1934622-27055085.pdf?src-supplier=Jameco; ComponentLink6URL: https://datasheet.ciiva.com/1103/1739253-1103569.pdf?src-supplier=Element14; ComponentLink6Description: https://datasheet.ciiva.com/1103/1739253-1103569.pdf?src-supplier=Element14; ComponentLink7URL: https://datasheet.ciiva.com/18453/70090647-18453733.pdf?src-supplier=Allied+Electronics; ComponentLink7Description: https://datasheet.ciiva.com/18453/70090647-18453733.pdf?src-supplier=Allied+Electronics; ComponentLink8URL: https://datasheet.ciiva.com/6168/1597333-6168907.pdf?src-supplier=Farnell; ComponentLink8Description: https://datasheet.ciiva.com/6168/1597333-6168907.pdf?src-supplier=Farnell; Supplier Part Number 1: WM18641-ND
footprint MOLX-878321420_V (SMD, 14-Leads, Body 16.65x6.3mm, Pitch 2mm)
pins: 1, 2, 3, 4, 5, 6, 7, 8, 9, 10, 11, 12, 13, 14

## MS263-10CP_RF_SHIELD_COVER
designator MECH?, comment MS263-10CP
Part Description: RF Shield Cover 0.685" (17.40mm) X 1.059" (26.90mm) Vent Holes in Pattern Snap Fit; Manufacturer: Masach Tech; Supplier 1: Digikey; Supplier Part Number 1: 2333-MS263-10CP-ND; Manufacturer Part Number 1: MS263-10CP; Stock 1: 374; Pricing 1: 1=1,85, 10=1,147, 64=0,81422, 128=0,72523, 256=0,65063, 448=0,59931, 960=0,54024, 2432=0,48217, 4928=0,44641 (USD); RoHS: No; Mount: Solder; Series: Drawn-Seamless EMI/RFI Shield; ComponentLink1URL: https://www.masach.com/downloadable/download/sample/sample_id/1476/?src-supplier=Digikey; ComponentLink1Description: https://www.masach.com/downloadable/download/sample/sample_id/1476/?src-supplier=Digikey
footprint MS263-10CP_RF_SHIELD_COVER (Full footprint)

## MS263-10F_RF_SHIELD_FRAME
designator MECH?, comment MS263-10F
Part Description: RF Shield Cover 0.685" (17.40mm) X 1.059" (26.90mm) Vent Holes in Pattern Snap Fit; Manufacturer: Masach Tech; ComponentLink1URL: https://www.masach.com/downloadable/download/sample/sample_id/1476/?src-supplier=Digikey; ComponentLink1Description: https://www.masach.com/downloadable/download/sample/sample_id/1476/?src-supplier=Digikey; Supplier 1: Digikey; Supplier Part Number 1: 2333-MS263-10F-ND; Manufacturer Part Number 1: MS263-10F; Stock 1: 1221; Pricing 1: 1=2,17, 10=1,356, 64=0,96984, 128=0,86656, 256=0,78012, 448=0,72065, 960=0,6522, 2432=0,58491, 4928=0,55 (USD); RoHS: No
footprint MS263-10F_RF_SHIELD_FRAME (Full footprint)
pins: 0 GND

## MURA120T3G_diode
designator D?, comment MURA120T3G
Part Description: Diode Standard 200V 2A Surface Mount SMA; Manufacturer: ON Semiconductor; Max Surge Current: 40A; Forward Voltage: 875mV; Forward Current: 2A; Peak Reverse Current: 2uA; Recovery Time: 35ns; Max Repetitive Reverse Voltage (Vrrm): 200V; Element Configuration: Single; Polarity: Standard; Output Current: 1A; ComponentLink1URL: http://www.mouser.com/ds/2/427/mmsz5225-102133.pdf; ComponentLink1Description: http://www.mouser.com/ds/2/427/mmsz5225-102133.pdf; ComponentLink2URL: http://www.onsemi.com/pub/Collateral/MMSD4148T1-D.PDF; ComponentLink2Description: http://www.onsemi.com/pub/Collateral/MMSD4148T1-D.PDF; ComponentLink3URL: http://www.farnell.com/datasheets/1707241.pdf; ComponentLink3Description: http://www.farnell.com/datasheets/1707241.pdf; ComponentLink4URL: https://www.verical.com/server-webapp/html/getDatasheet?partID=78734; ComponentLink4Description: https://www.verical.com/server-webapp/html/getDatasheet?partID=78734; Supplier 1: Digi-Key; Manufacturer Part Number 1: MURA120T3G; RoHS: Yes; Stock 1: 48194; Pricing 1: 1 = 0,39000, 10 = 0,31900, 100 = 0,21720, 500 = 0,16288, 1000 = 0,12217 (USD); Case/Package: SMA; Number of Pins: 2; Contact Plating: Matte,Tin; Min Operating Temperature: -65°C; Max Operating Temperature: 175°C; Package Quantity: 1; Packaging: Tape and Reel; Average Rectified Current: 2A; Reverse Recovery Time: 35ns; Peak Non-Repetitive Surge Current: 40A; Max Forward Surge Current (Ifsm): 40A; Voltage Rating (DC): 200V; Current Rating: 2A; Max Reverse Voltage (DC): 200V; Reverse Voltage: 200V; Length: 4.57mm; Height: 2.05mm; Width: 2.92mm; Radiation Hardening: No; REACH SVHC: No SVHC; Lead Free: Lead Free; Halogen Free: Halogen Free; ComponentLink5URL: http://www.onsemi.com/pub/Collateral/MURA115T3-D.PDF; ComponentLink5Description: http://www.onsemi.com/pub/Collateral/MURA115T3-D.PDF; ComponentLink6URL: http://www.jameco.com/Jameco/Products/ProdDS/1100812.pdf; ComponentLink6Description: http://www.jameco.com/Jameco/Products/ProdDS/1100812.pdf; ComponentLink7URL: http://uk.rs-online.com/webdocs/1221/0900766b812212fb.pdf; ComponentLink7Description: http://uk.rs-online.com/webdocs/1221/0900766b812212fb.pdf; ComponentLink8URL: http://www.farnell.com/datasheets/1750742.pdf; ComponentLink8Description: http://www.farnell.com/datasheets/1750742.pdf; Supplier Part Number 1: MURA120T3GOSCT-ND
footprint MURA120T3G_diode_DO-214AC
pins: A, C

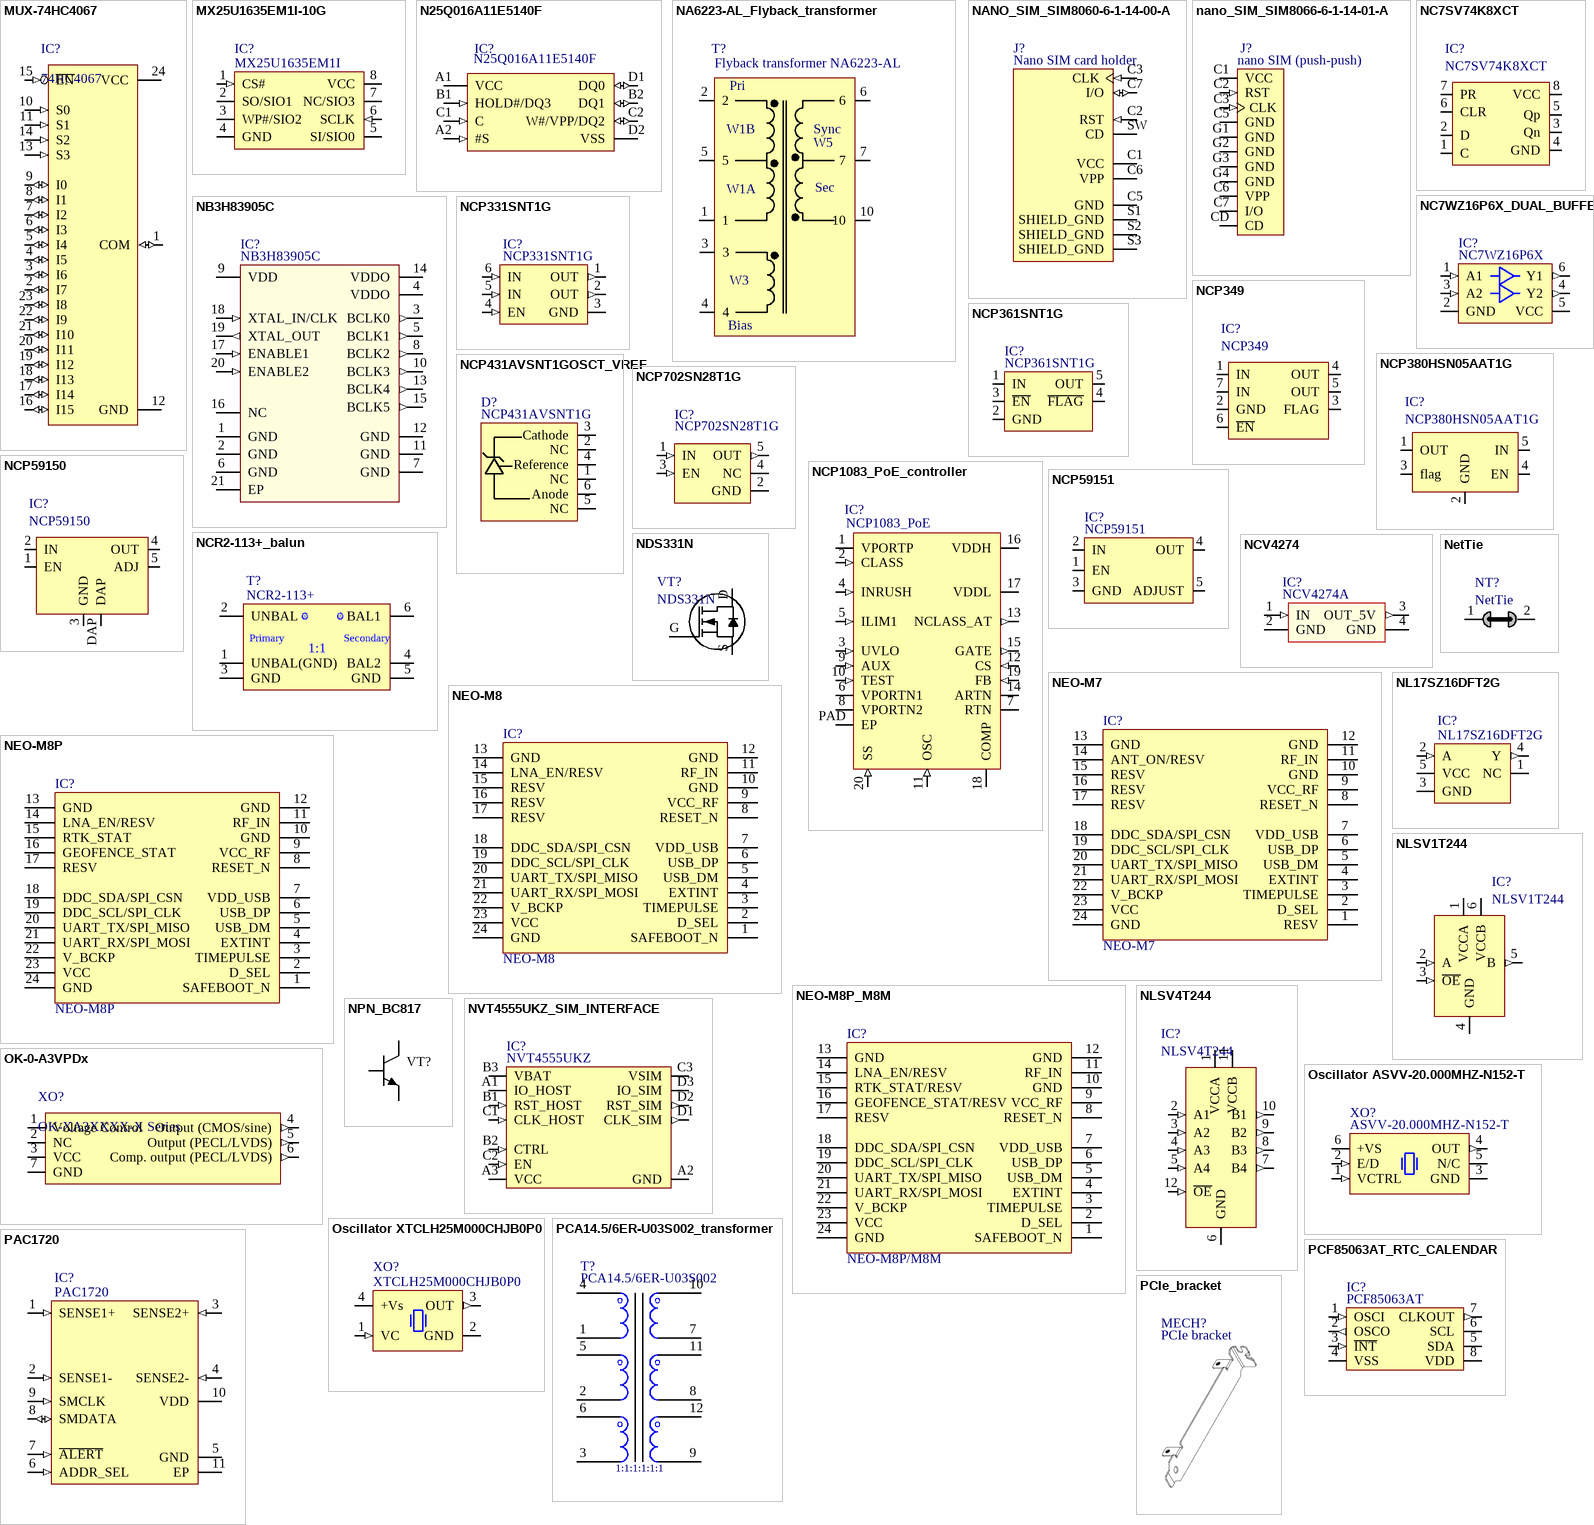
[diagram p62: symbols MUX-74HC4067 to PCIe_bracket]

## MUX-74HC4067
designator IC?, comment 74HC4067
MUX-74HC4067; Manufacturer Part Number 1: 74HC4067PW,118; Manufacturer: NXP Semiconductors; Function: Multiplexer/Demultiplexer; On-State Resistance: 120 Ohm; Circuit: 1 x 1:16; Current - Supply: 16µA; Voltage - Supply, Single/Dual (±): 2 V ~ 10 V; Voltage Supply Source: Single Supply; Supplier 1: Digi-Key; Mounting Type: Surface Mount; Supplier Device Package: 24-TSSOP; Packaging: Tape & Reel (TR); RoHS: RoHS Compliant; Operating Temperature: -40°C ~ 125°C; Category: Integrated Circuits (ICs); Package / Case: 24-TSSOP (0.173", 4.40mm Width); Supplier Part Number 1: 74HC4067PW,118-ND
footprint SSOP-24 (SOP, 24-Leads, Body 8,5x5,6mm (max), Pitch 0,65mm, IPC Medium Density)
footprint SSOP-24 (SOP, 24-Leads, Body 8,5x5,6mm (max), Pitch 0,65mm, IPC Medium Density)
pins: 1 COM (io), 2 I7 (io), 3 I6 (io), 4 I5 (io), 5 I4 (io), 6 I3 (io), 7 I2 (io), 8 I1 (io), 9 I0 (io), 10 S0 (in), 11 S1 (in), 12 GND (power), 13 S3 (in), 14 S2 (in), 15 ~{EN} (in), 16 I15 (io), 17 I14 (io), 18 I13 (io), 19 I12 (io), 20 I11 (io), 21 I10 (io), 22 I9 (io), 23 I8 (io), 24 VCC (power)

## MX25U1635EM1I-10G
designator IC?, comment MX25U1635EM1I
Manufacturer: Macronix; Manufacturer Part Number: MX25U1635EM1I-10G; Part Description: FLASH - NOR Memory IC 16Mb (2M x 8) SPI 104MHz 8-SOP; Memory Type: Non-Volatile; Memory Format: FLASH; Memory Size: 16Mb (2M x 8); Write Cycle Time - Word, Page: 30µs, 3ms; Memory Interface: SPI; Voltage - Supply: 1.65 V ~ 2 V; Supplier 1: Digi-Key; RoHS: RoHS Compliant; Category: Integrated Circuits (ICs); Stock 1: 29792; Pricing 1: 1=1.27, 500=0.98924 (USD); Packaging: Tube; Part Status: Not For New Designs; Technology: FLASH - NOR; Operating Temperature: -40°C ~ 85°C (TA); Mounting Type: Surface Mount; Package / Case: 8-SOIC (0.154", 3.90mm Width); Supplier Device Package: 8-SOP; ComponentLink1URL: http://www.macronix.com/Lists/Datasheet/Attachments/6247/MX25U1635E,%201.8V,%2016Mb,%20v2.1.pdf; ComponentLink1Description: http://www.macronix.com/Lists/Datasheet/Attachments/6247/MX25U1635E,%201.8V,%2016Mb,%20v2.1.pdf; Supplier Part Number 1: 1092-1123-ND
footprint MX25U1635EM1I-10G_SOP8_150mil (8-Pin Small Outline Integrated Circuit 1.27 mm Pitch)
pins: 1 CS# (in), 2 SO/SIO1 (io), 3 WP#/SIO2 (io), 4 GND, 5 SI/SIO0 (io), 6 SCLK (in), 7 NC/SIO3 (io), 8 VCC

## N25Q016A11E5140F
designator IC?
Manufacturer: Micron Technology Inc.; Manufacturer Part Number 1: N25Q016A11E5140F TR; Part Description: IC FLASH 16MBIT 108MHZ LBGA; Voltage - Supply: 1.7 V ~ 2 V; Speed: 108MHz; Interface: SPI Serial; Memory Size: 16M (4M x 4); Memory Type: FLASH - NOR; Format - Memory: FLASH; Supplier 1: Digi-Key; Supplier Device Package: 8-XFCSP (2x2.8); RoHS: RoHS Compliant; Packaging: Cut Tape (CT); Package / Case: 8-XFBGA, CSPBGA; Operating Temperature: -40°C ~ 85°C (TA); Category: Integrated Circuits (ICs); Supplier Part Number 1: 557-1634-1-ND
footprint N25Q016A11E5140F (2.8 x 2 16 MB memory)
pins: A1 VCC (power), A2 #S (in), B1 HOLD#/DQ3 (in), B2 DQ1 (io), C1 C (in), C2 W#/VPP/DQ2 (io), D1 DQ0 (io), D2 VSS

## NA6223-AL_Flyback_transformer
designator T?, comment Flyback transformer NA6223-AL
Part Description: Audio Transformers / Signal Transformers NA6223 10W 0.33Ohms For TPS23753A; Manufacturer: Coilcraft; Manufacturer Part Number 1: NA6223-ALD; Current Rating: 2A; Supplier 1: Mouser; RoHS: No; Stock 1: 2080; Pricing 1: 1 = 4,20000, 10 = 3,78000, 50 = 3,36000, 100 = 3,20000, 1000 = 2,49000, 10000 = 2,49000 (USD); REACH SVHC: Unknown; Supplier Part Number 1: 994-NA6223-ALD
footprint PoE13P-50L_Flyback_transformer
pins: 1, 2, 3, 4, 5, 6, 7, 10
text: Pri; W1B; Sync; W5; W1A; Sec; W3; Bias

## NANO_SIM_SIM8060-6-1-14-00-A
designator J?, comment Nano SIM card holder
Part Description: 8 (6 + 2) Position Card Connector NANO SIM Surface Mount, Right Angle Gold; Manufacturer: Global Connector Technology; Manufacturer Part Number 1: SIM8060-6-1-14-00-A; Supplier 1: Newark; Supplier Part Number 1: 94AC8253; Stock 1: 553; Pricing 1: 1=1,22000, 10=1,17000, 25=1,10000, 50=1,05000, 100=0,98900, 250=0,93200, 500=0,87400 (USD); RoHS: No
footprint NANO_SIM_SIM8060-6-1-14-00-A
pins: C1 VCC (power), C2 RST (in), C3 CLK (in), C5 GND (power), C6 VPP, C7 I/O (io), S1 SHIELD_GND (power), S2 SHIELD_GND (power), S3 SHIELD_GND (power), SW CD

## nano_SIM_SIM8066-6-1-14-01-A
designator J?, comment nano SIM (push-push)
Part Description: 7 (6 + 1) Position Card Connector NANO SIM Surface Mount, Right Angle Gold; Manufacturer: Global Connector Technology; Manufacturer Part Number 1: SIM8066-6-1-14-01-A; Supplier 1: Farnell; Supplier Part Number 1: 3772948; Stock 1: 1500; Pricing 1: 1500=1,00000, 7500=0,93000, 15000=0,86600, 30000=0,81900 (EUR); RoHS: No
footprint nano_SIM_SIM8066-6-1-14-01-A
pins: C1 VCC (power), C2 RST (in), C3 CLK (in), C5 GND (power), C6 VPP (power), C7 I/O (io), CD (io), G1 GND (power), G2 GND (power), G3 GND (power), G4 GND (power)

## NB3H83905C
designator IC?
Manufacturer: ON Semiconductor; Manufacturer Part Number 1: NB3H83905CMNG; Part Description: Clock Fanout Buffer (Distribution) IC 100MHz 20-VFQFN Exposed Pad; Output: LVCMOS, LVTTL; Voltage - Supply: 1.6 V ~ 3.465 V; Input: LVCMOS, LVTTL, Crystal; Ratio - Input:Output: 1:6; Number of Circuits: 1; Frequency - Max: 100MHz; Differential - Input:Output: No/No; Supplier 1: Digi-Key; Packaging: Tape & Reel (TR); Operating Temperature: -40°C ~ 85°C; Type: Fanout Buffer (Distribution); Mounting Type: Surface Mount; Category: Integrated Circuits (ICs); RoHS: RoHS Compliant; Package / Case: 20-VFQFN Exposed Pad; Supplier Device Package: 20-QFN (3x4); Supplier Part Number 1: NB3H83905CMNGOS-ND
footprint NB3H83905C_20QFN (QFN, 20-Leads, Body 4,00x4,00mm, Pitch 0,50mm, Thermal Pad 2,70x2,70mm, IPC Medium Density)
pins: 1 GND, 2 GND, 3 BCLK0 (out), 4 VDDO (power), 5 BCLK1 (out), 6 GND, 7 GND, 8 BCLK2 (out), 9 VDD (power), 10 BCLK3 (out), 11 GND, 12 GND, 13 BCLK4 (out), 14 VDDO (power), 15 BCLK5 (out), 16 NC, 17 ENABLE1 (in), 18 XTAL_IN/CLK (in), 19 XTAL_OUT (out), 20 ENABLE2 (in), 21 EP

## NC7SV74K8XCT
designator IC?
Manufacturer: Fairchild Semiconductor; Max Propagation Delay @ V, Max CL: 2.8ns @ 3.3V, 30pF; Frequency - Clock: 200MHz; Current - Output High, Low: 24mA, 24mA; Current - Quiescent: 0.9µA; Number of Bits per Element: 1; Trigger Type: Positive Edge; Output Type: Differential; Function: Set(Preset) and Reset; Input Capacitance: 2pF; Voltage - Supply: 0.9 V ~ 3.6 V; Supplier 1: Digi-Key; Operating Temperature: -40°C ~ 85°C (TA); Mounting Type: Surface Mount; Package / Case: 8-VFSOP (0.091", 2.30mm Width); Packaging: Cut Tape (CT); Number of Elements: 1; Manufacturer Part Number 1: NC7SV74K8X; RoHS: RoHS Compliant; Type: D-Type; Category: Integrated Circuits (ICs); Supplier Part Number 1: NC7SV74K8XCT-ND
footprint NC7SV74K8XCT (SOIC, 8-Leads, Body 2,00x2,30mm, Pitch 1,27mm, IPC Medium Density)
pins: 1 C, 2 D, 3 Qn, 4 GND, 5 Qp, 6 CLR, 7 PR, 8 VCC

## NC7WZ16P6X_DUAL_BUFFER
designator IC?, comment NC7WZ16P6X
Manufacturer: ON Semiconductor / Fairchild; Part Description: Buffer, Non-Inverting 2 Element 1 Bit per Element Push-Pull Output SC-70-6; Min Supply Voltage: 1.65V; Max Supply Voltage: 5.5V; Number of Channels: 2; Propagation Delay: 3.8ns; Logic Function: Buffer,Inverting; Max Power Dissipation: 180mW; Low Level Output Current: 32mA; Polarity: Non-Inverting; Number of Bits per Element: 1; High Level Output Current: -32mA; Turn-On Delay Time: 10.6ns; Quiescent Current: 1uA; Supplier 1: Digi-Key; Manufacturer Part Number 1: NC7WZ16P6X; Stock 1: 0; Mount: Surface Mount; Case/Package: SC; Number of Pins: 6; Weight: 0.028g; Contact Plating: Matte,Tin; Min Operating Temperature: -40°C; Max Operating Temperature: 125°C; Number of Inputs: 2; Number of Outputs: 2; Packaging: Tape and Reel; Package Quantity: 3000; Number of Elements: 2; Number of Input Lines: 2; Number of Output Lines: 2; Termination: SMD/SMT; Number of Circuits: 2; Number of Bits: 2; Length: 2mm; Height: 1mm; Width: 1.25mm; Radiation Hardening: No; REACH SVHC: No SVHC; Lead Free: Lead Free; Supplier Part Number 1: NC7WZ16P6XDKR-ND
footprint SC-70_NC7WZ16P6X (SC-70 (SOT323), 6 pin)
pins: 1 A1 (in), 2 GND, 3 A2 (in), 4 Y2 (out), 5 VCC (power), 6 Y1 (out)

## NCP331SNT1G
designator IC?
Manufacturer: ON Semiconductor; Part Description: IC LOAD SWITCH SOFT START 6TSOP; Switch Type: General Purpose; Number of Outputs: 1; Ratio - Input:Output: 1:1; Output Configuration: High Side; Output Type: N-Channel; Interface: On/Off; Voltage - Load: 1.8 V ~ 5.5 V; Voltage - Supply (Vcc/Vdd): Not Required; Current - Output (Max): 2A; Rds On (Typ): 33 mOhm; Supplier 1: Digi-Key; Manufacturer Part Number: NCP331SNT1G; RoHS: RoHS Compliant; Category: Integrated Circuits (ICs); Stock 1: 3079; Pricing 1: 1=0.73, 10=0.646, 100=0.4951, 500=0.3914, 1000=0.31312 (USD); Packaging: Cut Tape (CT); Part Status: Active; Input Type: -; Features: Load Discharge, Slew Rate Controlled; Fault Protection: -; Operating Temperature: -40°C ~ 85°C (TA); Package / Case: SOT-23-6 Thin, TSOT-23-6; Supplier Device Package: 6-TSOP; ComponentLink1URL: http://www.onsemi.com/pub/Collateral/NCP331-D.PDF; ComponentLink1Description: http://www.onsemi.com/pub/Collateral/NCP331-D.PDF; Supplier Part Number 1: NCP331SNT1GOSCT-ND
footprint NCP331SNT1G_SOT23-6
pins: 1 OUT (out), 2 OUT (out), 3 GND, 4 EN (in), 5 IN (in), 6 IN (in)

## NCP349
designator IC?
Manufacturer: ON Semiconductor; Manufacturer Part Number 1: NCP349MNAETBG; Current - Supply: 70µA; Voltage - Supply: 1.2 V ~ 28 V; Supplier 1: Digi-Key; Operating Temperature: -40°C ~ 85°C; Package / Case: 6-VFDFN Exposed Pad; RoHS: RoHS Compliant; Supplier Device Package: 6-DFN (2x1.6); Category: Integrated Circuits (ICs); Mounting Type: Surface Mount; Voltage - Input: -; Applications: Overvoltage Protection Controller; Packaging: Digi-Reel®; Supplier Part Number 1: NCP349MNAETBGOSDKR-ND
footprint NCP349 (SON, 6-Leads, Body 1,60x2,00mm, Pitch 0,50mm, Thermal Pad 1,20x0,79mm, IPC Medium Density)
pins: 1 IN, 2 GND, 3 FLAG, 4 OUT, 5 OUT, 6 ~{EN}, 7 IN

## NCP361SNT1G
designator IC?
Manufacturer: ON Semiconductor; Part Description: IC USB POS OVP/OCP 5TSOP; Supplier 1: Digi-Key; Manufacturer Part Number 1: NCP361SNT1G; RoHS: RoHS Compliant; Category: Circuit Protection; Stock 1: 11078; Pricing 1: 1=0.76, 10=0.673, 100=0.516, 500=0.40788, 1000=0.3263 (USD); Packaging: Cut Tape (CT); Part Status: Active; Voltage - Clamping: -; Technology: Mixed Technology; Applications: General Purpose; Mounting Type: Surface Mount; Package / Case: SOT-23-5 Thin, TSOT-23-5; Supplier Device Package: 5-TSOP; ComponentLink1URL: http://www.onsemi.com/pub/Collateral/NCP361-D.PDF; ComponentLink1Description: http://www.onsemi.com/pub/Collateral/NCP361-D.PDF; Supplier Part Number 1: NCP361SNT1GOSCT-ND
footprint NCP361SNT1G_TSOP5
pins: 1 IN (in), 2 GND, 3 ~{EN} (in), 4 ~{FLAG} (out), 5 OUT (out)

## NCP380HSN05AAT1G
designator IC?
Manufacturer: ON Semiconductor; Voltage - Input: 2.5 V ~ 5.5 V; Function: Current Limiting; Current - Output: 500mA; Supplier 1: Digi-Key; Category: Integrated Circuits (ICs); Package / Case: 6-TSOP (0.059", 1.50mm Width) 5 leads; Supplier Part Number 1: NCP380HSN05AAT1GOSCT-ND
footprint SOT23-5
pins: 1 OUT, 2 GND, 3 flag, 4 EN, 5 IN

## NCP431AVSNT1GOSCT_VREF
designator D?, comment NCP431AVSNT1G
Part Description: Shunt Voltage Reference IC Adjustable 2.5V 36 VV ±1% 100 mA SOT-23-3 (TO-236); Manufacturer: ON Semiconductor; Max Input Voltage: 2.525V; Max Output Current: 100mA; Output Voltage: 36V; Min Input Voltage: 2.475V; Tolerance: 1%; Min Output Voltage: 2.5V; Temperature Coefficient: 50ppm/°C; Cathode Current: 60uA; Reference Type: Shunt,Adjustable,Programmable; Output Type: Adjustable; Supplier 1: Digi-Key; Supplier Part Number 1: NCP431AVSNT1GOSCT-ND; Manufacturer Part Number 1: NCP431AVSNT1G; Stock 1: 4600; Pricing 1: 1=0,44000, 10=0,35700, 25=0,32640, 100=0,24290, 250=0,22008, 500=0,18216, 1000=0,13661 (USD); RoHS: Yes; Case/Package: SOT-23-3; Number of Pins: 3; Min Operating Temperature: -40°C; Max Operating Temperature: 125°C; Package Quantity: 3000; Packaging: Tape and Reel; Max Output Voltage: 36V; Output Current: 100mA; Reference Voltage: 2.5V; Length: 3.04mm; Width: 1.4mm; Height: 1.01mm; Radiation Hardening: No; REACH SVHC: No SVHC; Lead Free: Lead Free; Halogen Free: Halogen Free; ComponentLink1URL: https://datasheet.ciiva.com/8132/ncp431-d-8132432.pdf?src-supplier=Avnet; ComponentLink1Description: https://datasheet.ciiva.com/8132/ncp431-d-8132432.pdf?src-supplier=Avnet; ComponentLink2URL: https://datasheet.ciiva.com/30476/0900766b8121bbe3-30476322.pdf?src-supplier=RSComponents; ComponentLink2Description: https://datasheet.ciiva.com/30476/0900766b8121bbe3-30476322.pdf?src-supplier=RSComponents; ComponentLink3URL: https://datasheet.ciiva.com/49020/70300496-49020892.pdf?src-supplier=Allied+Electronics; ComponentLink3Description: https://datasheet.ciiva.com/49020/70300496-49020892.pdf?src-supplier=Allied+Electronics
footprint SOT23-6
pins: 1 NC, 2 NC, 3 Cathode, 4 Reference, 5 NC, 6 Anode

## NCP702SN28T1G
designator IC?
Manufacturer: ON Semiconductor; Part Description: Linear Voltage Regulator IC Positive Fixed 1 Output 2.8V 200mA 5-TSOP; Output Configuration: Positive; Output Type: Fixed; Voltage - Input (Max): 5.5V; Voltage - Output (Min/Fixed): 2.8V; Current - Output: 200mA; Control Features: Enable; Protection Features: Over Current, Over Temperature, Soft Start, Under Voltage Lockout (UVLO); Supplier 1: Digi-Key; Manufacturer Part Number 1: NCP702SN28T1G; RoHS: RoHS Compliant; Category: Integrated Circuits (ICs); Stock 1: 5251; Pricing 1: 1=0.8, 10=0.707, 100=0.542, 500=0.42848, 1000=0.34278 (USD); Packaging: Cut Tape (CT); Part Status: Active; Voltage - Output (Max): -; Voltage Dropout (Max): -; PSRR: -; Operating Temperature: -40°C ~ 125°C; Mounting Type: Surface Mount; Package / Case: SOT-23-5 Thin, TSOT-23-5; Supplier Device Package: 5-TSOP; Base Part Number: NCP702; ComponentLink1URL: http://www.onsemi.com/pub/Collateral/NCP702-D.PDF; ComponentLink1Description: http://www.onsemi.com/pub/Collateral/NCP702-D.PDF; Supplier Part Number 1: NCP702SN28T1GOSCT-ND
footprint NCP702SN28T1GOSCT-ND_SOT23-5
pins: 1 IN (in), 2 GND, 3 EN (in), 4 NC, 5 OUT (out)

## NCP1083_PoE_controller
designator IC?, comment NCP1083_PoE
Manufacturer: ON Semiconductor; Manufacturer Part Number 1: NCP1083DER2G; Pert Description: Power Over Ethernet Controller 1 Channel 802.3at (PoE+), 802.3af (PoE) 20-TSSOP-EP; Nominal Supply Current: 1.1A; Frequency: 500kHz; Output Voltage: 9V; Number of Outputs: 1; Max Duty Cycle: 80%; Max Power Dissipation: 40W; Topology: Flyback; Supplier 1: Digi-Key; Supplier Part Number 1: NCP1083DER2GOSCT-ND; Stock 1: 12659; Pricing 1: 1=4,10000, 10=3,68200, 25=3,48120, 100=3,01700, 250=2,86228, 500=2,56832, 1000=2,16605 (USD); RoHS: Yes; Case/Package: TSSOP; Number of Pins: 20; Min Operating Temperature: -40°C; Max Operating Temperature: 85°C; Switching Frequency: 500kHz; Output Current: 1.1A; Package Quantity: 2500; Packaging: Tape and Reel; Number of Channels: 1; Series: -; Supply Current: 1.1A; Radiation Hardening: No; REACH SVHC: No SVHC; Lead Free: Lead Free; Halogen Free: Halogen Free; RoHS Compliant: Yes; ComponentLink1URL: https://datasheet.ciiva.com/9213/ncp1083-d-9213696.pdf?src-supplier=Avnet; ComponentLink1Description: https://datasheet.ciiva.com/9213/ncp1083-d-9213696.pdf?src-supplier=Avnet; ComponentLink2URL: https://datasheet.ciiva.com/1573/1441870-1573173.pdf?src-supplier=Farnell; ComponentLink2Description: https://datasheet.ciiva.com/1573/1441870-1573173.pdf?src-supplier=Farnell; ComponentLink3URL: https://datasheet.ciiva.com/1647/1441870-1647157.pdf?src-supplier=Newark; ComponentLink3Description: https://datasheet.ciiva.com/1647/1441870-1647157.pdf?src-supplier=Newark; ComponentLink4URL: https://datasheet.ciiva.com/1573/1441870-1573174.pdf?src-supplier=Farnell; ComponentLink4Description: https://datasheet.ciiva.com/1573/1441870-1573174.pdf?src-supplier=Farnell; ComponentLink5URL: https://datasheet.ciiva.com/16469/ncp1083-d-16469798.pdf?src-supplier=Future+Electronics; ComponentLink5Description: https://datasheet.ciiva.com/16469/ncp1083-d-16469798.pdf?src-supplier=Future+Electronics; ComponentLink6URL: https://datasheet.ciiva.com/1512/1441870-1512909.pdf?src-supplier=Element14; ComponentLink6Description: https://datasheet.ciiva.com/1512/1441870-1512909.pdf?src-supplier=Element14
footprint NCP1083_PoE_controller_TSSOP20
pins: 1 VPORTP (power), 2 CLASS (in), 3 UVLO (in), 4 INRUSH (in), 5 ILIM1 (in), 6 VPORTN1 (power), 7 RTN (power), 8 VPORTN2 (power), 9 AUX (in), 10 TEST (in), 11 OSC (in), 12 CS (in), 13 NCLASS_AT (out), 14 ARTN (power), 15 GATE (out), 16 VDDH (power), 17 VDDL (power), 18 COMP (io), 19 FB (in), 20 SS (in), PAD EP (power)

## NCP59150
designator IC?
Manufacturer Part Number 1: NCP59151DS50R4G; Manufacturer: ON SEMICONDUCTOR; Input Voltage Min: 2.24; Dropout Voltage Vdo: 300; Output Voltage Nom.: 5; Input Voltage Max: 13.5; Output Current: 1.5; LDO Regulator Case Style: TO-263; Supplier 1: Farnell; Operating Temperature Range: -40°C to +125; Supplier Part Number 1: 2217055
footprint DPAK170P1420X450-6N (D2-PAK, 6-Pads, Body 7,75x8,46mm (max), IPC Medium Density)
pins: 1 EN, 2 IN, 3 GND, 4 OUT, 5 ADJ, DAP

## NCP59151
designator IC?
Manufacturer Part Number 1: NCP59151DS50R4G; Manufacturer: ON Semiconductor; Voltage - Output: 5V; Voltage - Dropout (Typical): 0.3V @ 1.5A; Regulator Topology: Positive Fixed; Voltage - Input: Up to 13.5V; Current - Output: 1.5A; Number of Regulators: 1; Supplier 1: Digi-Key; Mounting Type: Surface Mount; Operating Temperature: -40°C ~ 125°C; Supplier Device Package: D2PAK-5; Package / Case: TO-263-6, D²Pak (5 Leads + Tab), TO-263BA; RoHS: RoHS Compliant; Category: Integrated Circuits (ICs); Packaging: Digi-Reel®; Current - Limit (Min): -; Supplier Part Number 1: NCP59151DS50R4GOSDKR-ND
footprint TO-263-5 (D-PAK/TO-263-5; 5 Leads; Body 14.4 (inc. leads) x 10.4 mm (LxW max))
pins: 1 EN (in), 2 IN (in), 3 GND, 4 OUT (out), 5 ADJUST (in)